# Altium footprint library SOIC127P1036X391-16N.PcbLib: 1 footprints
Each footprint in its own frame and in the unit in brackets; x right, y up, seen from the top. Pads: shape width x height; smd on the part's side, far side on the other; paste and mask are expansions set on the pad; w line width, h text height; cw(c..) or ccw(c..) is an arc to the next point about the centre after c.
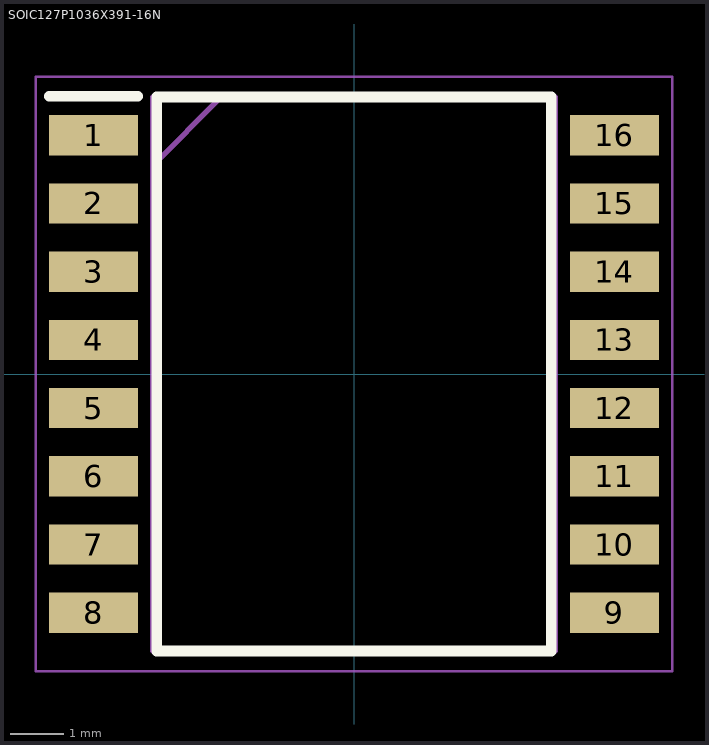
[diagram p0: the footprint, top view; thin cyan lines are the x and y axes]

## SOIC127P1036X391-16N [mm]
pads (16):
  rect 1.65x0.75 smd: 1(-4.85,4.445) 2(-4.85,3.175) 3(-4.85,1.905) 4(-4.85,0.635) 5(-4.85,-0.635) 6(-4.85,-1.905) 7(-4.85,-3.175) 8(-4.85,-4.445) 9(4.85,-4.445) 10(4.85,-3.175) 11(4.85,-1.905) 12(4.85,-0.635) 13(4.85,0.635) 14(4.85,1.905) 15(4.85,3.175) 16(4.85,4.445)
Top Overlay:
  lines w0.2: -5.675,5.17 -4.025,5.17 ; -3.675,-5.156 3.675,-5.156 3.675,5.156 -3.675,5.156 -3.675,-5.156
Mechanical 15:
  lines w0.1: -3.746,3.886 -2.476,5.156 ; -3.746,-5.156 3.746,-5.156 3.746,5.156 -3.746,5.156 -3.746,-5.156
Mechanical 20:
  lines w0.05: -5.925,-5.533 5.925,-5.533 5.925,5.533 -5.925,5.533 -5.925,-5.533
3D body "HCPL-316J-500E.stp": height 3.91, standoff 0, extent -5.182,-5.156 5.182,5.156